# Altium schematic symbol library LM5105.SchLib: 1 symbol
Pins are listed as number, name and electrical type; pins without a type are passive.

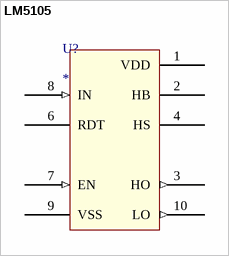
[diagram p0: symbol LM5105]

## LM5105
designator U?
pins: 1 VDD (power), 2 HB, 3 HO (out), 4 HS (power), 6 RDT, 7 EN (in), 8 IN (in), 9 VSS (power), 10 LO (out)